# EAGLE library part LPR550AL_GYRO (library LPR550AL_GYRO)
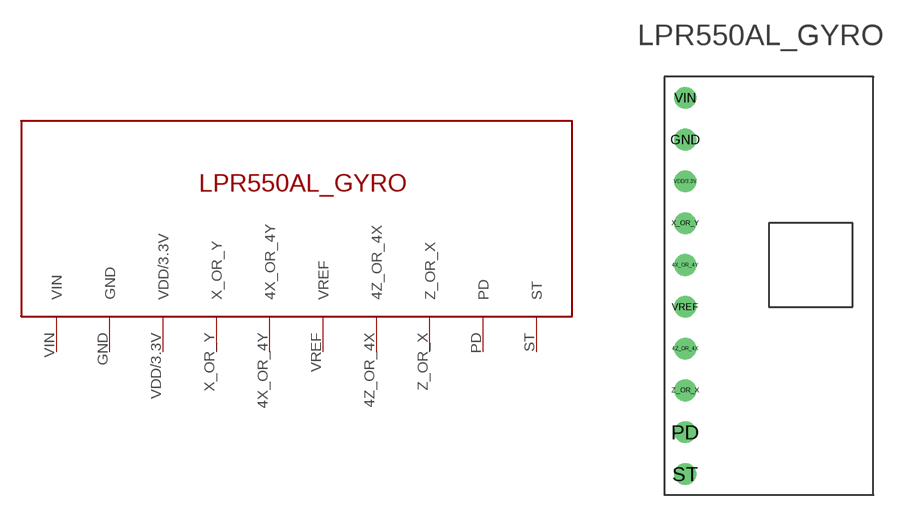
[diagram p0: symbol with the pads of LPR550AL_GYRO; footprint LPR550AL_GYRO]

Designator prefix -

## LPR550AL_GYRO  [LPR550AL_GYRO]
4X_OR_4Y  4X_OR_4Y
4Z_OR_4X  4Z_OR_4X
GND  GND
PD  PD
ST  ST
VDD/3.3V  VDD/3.3V
VIN  VIN
VREF  VREF
X_OR_Y  X_OR_Y
Z_OR_X  Z_OR_X

## Footprint LPR550AL_GYRO (pad centres in mm)
drill 0.813 round: 4X_OR_4Y -5.08,1.27; 4Z_OR_4X -5.08,-3.81; GND -5.08,8.89; PD -5.08,-8.89; ST -5.08,-11.43; VDD/3.3V -5.08,6.35; VIN -5.08,11.43; VREF -5.08,-1.27; X_OR_Y -5.08,3.81; Z_OR_X -5.08,-6.35